# EAGLE library part TMUX1108RSVR (library tmux1108)
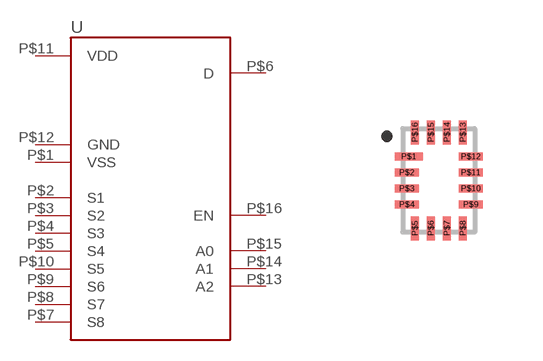
[diagram p1: symbol with the pads of UQFN16-RSV0016A; footprint UQFN16-RSV0016A]

Designator prefix U

## TMUX1108RSVR (DIGIKEY: 296-53257-1-ND; MFR: TI; MFR_PN: TMUX1108RSVR)  [UQFN16-RSV0016A]
P$1  VSS
P$2  S1
P$3  S2
P$4  S3
P$5  S4
P$6  D
P$7  S8
P$8  S7
P$9  S6
P$10  S5
P$11  VDD
P$12  GND
P$13  A2
P$14  A1
P$15  A0
P$16  EN

## Footprint UQFN16-RSV0016A (pad centres in mm)
smd 0.7 x 0.2: P$1 -0.75,0.6
smd 0.6 x 0.2: P$2 -0.8,0.2; P$3 -0.8,-0.2; P$4 -0.8,-0.6; P$9 0.8,-0.6; P$10 0.8,-0.2; P$11 0.8,0.2; P$12 0.8,0.6
smd 0.2 x 0.6: P$5 -0.6,-1.2; P$6 -0.2,-1.2; P$7 0.2,-1.2; P$8 0.6,-1.2; P$13 0.6,1.2; P$14 0.2,1.2; P$15 -0.2,1.2; P$16 -0.6,1.2